# Altium footprint library TP12R.PcbLib: 1 footprints
Each footprint in its own frame and in the unit in brackets; x right, y up, seen from the top. Pads: shape width x height; smd on the part's side, far side on the other; paste and mask are expansions set on the pad; w line width, h text height; cw(c..) or ccw(c..) is an arc to the next point about the centre after c.
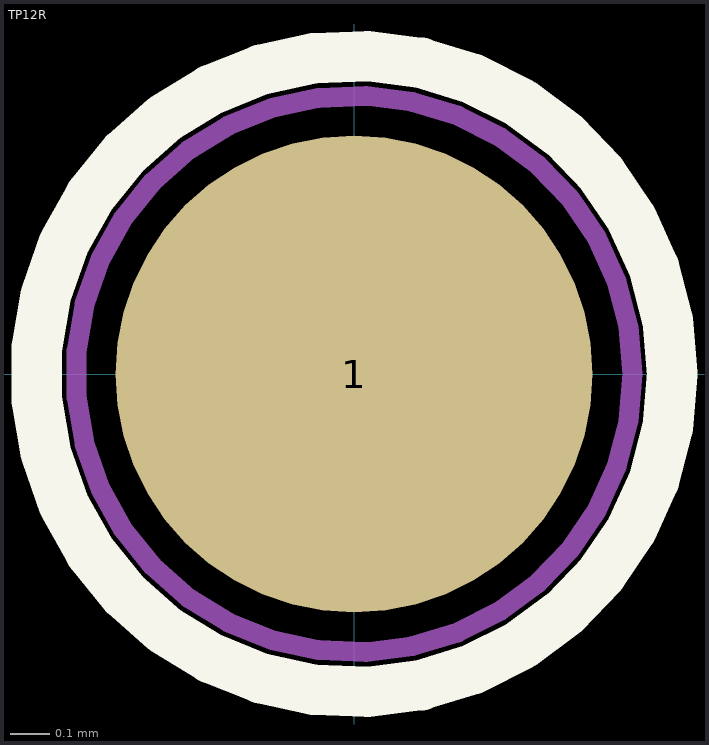
[diagram p0: the footprint, top view; thin cyan lines are the x and y axes]

## TP12R [mm] "Testpoint, Round 1.2mm Dia"
pads (1):
  round 1.2 smd paste-0.5: 1(0,0)
Top Overlay:
  circle w0.127: c0,0 r0.8
Mechanical 11:
  text ".Designator" at -0.635,-0.254 h0.5
Mechanical 13:
  circle w0.05: c0,0 r0.7
3D body: height 0.05, standoff 0, extent -0.595,-0.599 0.6,0.599